# EAGLE library part LM2576T-3.3 (library tov)
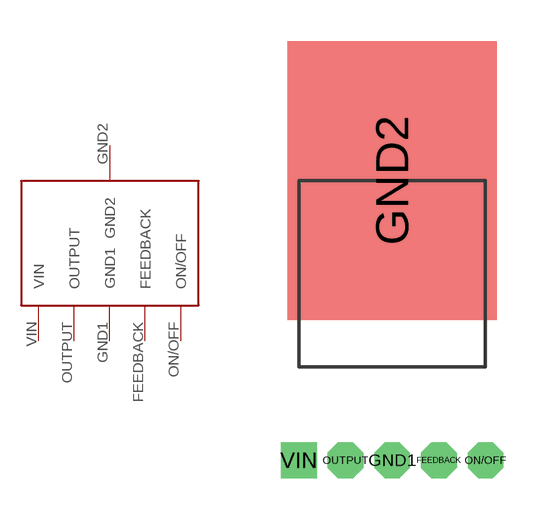
[diagram p3: symbol with the pads of LM2576T-3.3; footprint LM2576T-3.3]

Designator prefix -

## LM2576T-3.3  [LM2576T-3.3]
FEEDBACK  FEEDBACK
GND1  GND1
GND2  GND2
ON/OFF  ON/OFF
OUTPUT  OUTPUT
VIN  VIN

## Footprint LM2576T-3.3 (pad centres in mm)
drill 0.8 octagon: FEEDBACK 5.105,0; GND1 3.404,0; ON/OFF 6.807,0; OUTPUT 1.702,0
smd 7.62 x 10.16: GND2 3.404,10.211
drill 0.8 square: VIN 0,0